# EAGLE library part IC-HK (library strobe)
155 MHz LASER SWITCH
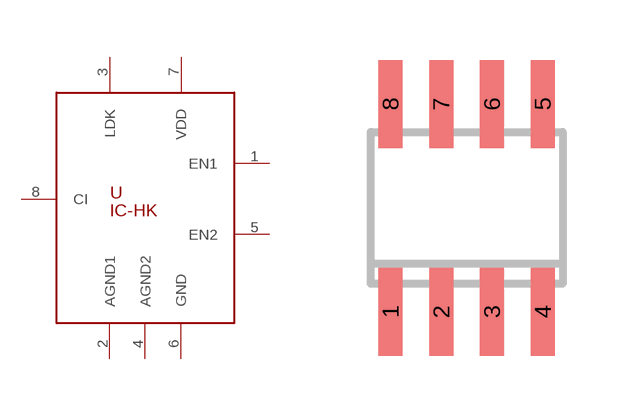
[diagram p0: symbol with the pads of SO8; footprint SO8]

Designator prefix -

## IC-HK  [SO8]
1  EN1
2  AGND1  pas
3  LDK  pas
4  AGND2  pas
5  EN2
6  GND  pwr
7  VDD  pwr
8  CI  pas

## Footprint SO8 (pad centres in mm)
8-Lead Small Outline IC (SO-8) Source: http://www.analog.com/UploadedFiles/Data_Sheets/703465986AD8611_2_0.pdf
smd 0.6 x 2.2: 1 -1.905,-2.6; 2 -0.635,-2.6; 3 0.635,-2.6; 4 1.905,-2.6; 5 1.905,2.6; 6 0.635,2.6; 7 -0.635,2.6; 8 -1.905,2.6